# Altium footprint library pcblib_STD.PcbLib: 26 footprints (part 2 of 2)
Each footprint in its own frame and in the unit in brackets; x right, y up, seen from the top. Pads: shape width x height; smd on the part's side, far side on the other; paste and mask are expansions set on the pad; w line width, h text height; cw(c..) or ccw(c..) is an arc to the next point about the centre after c.
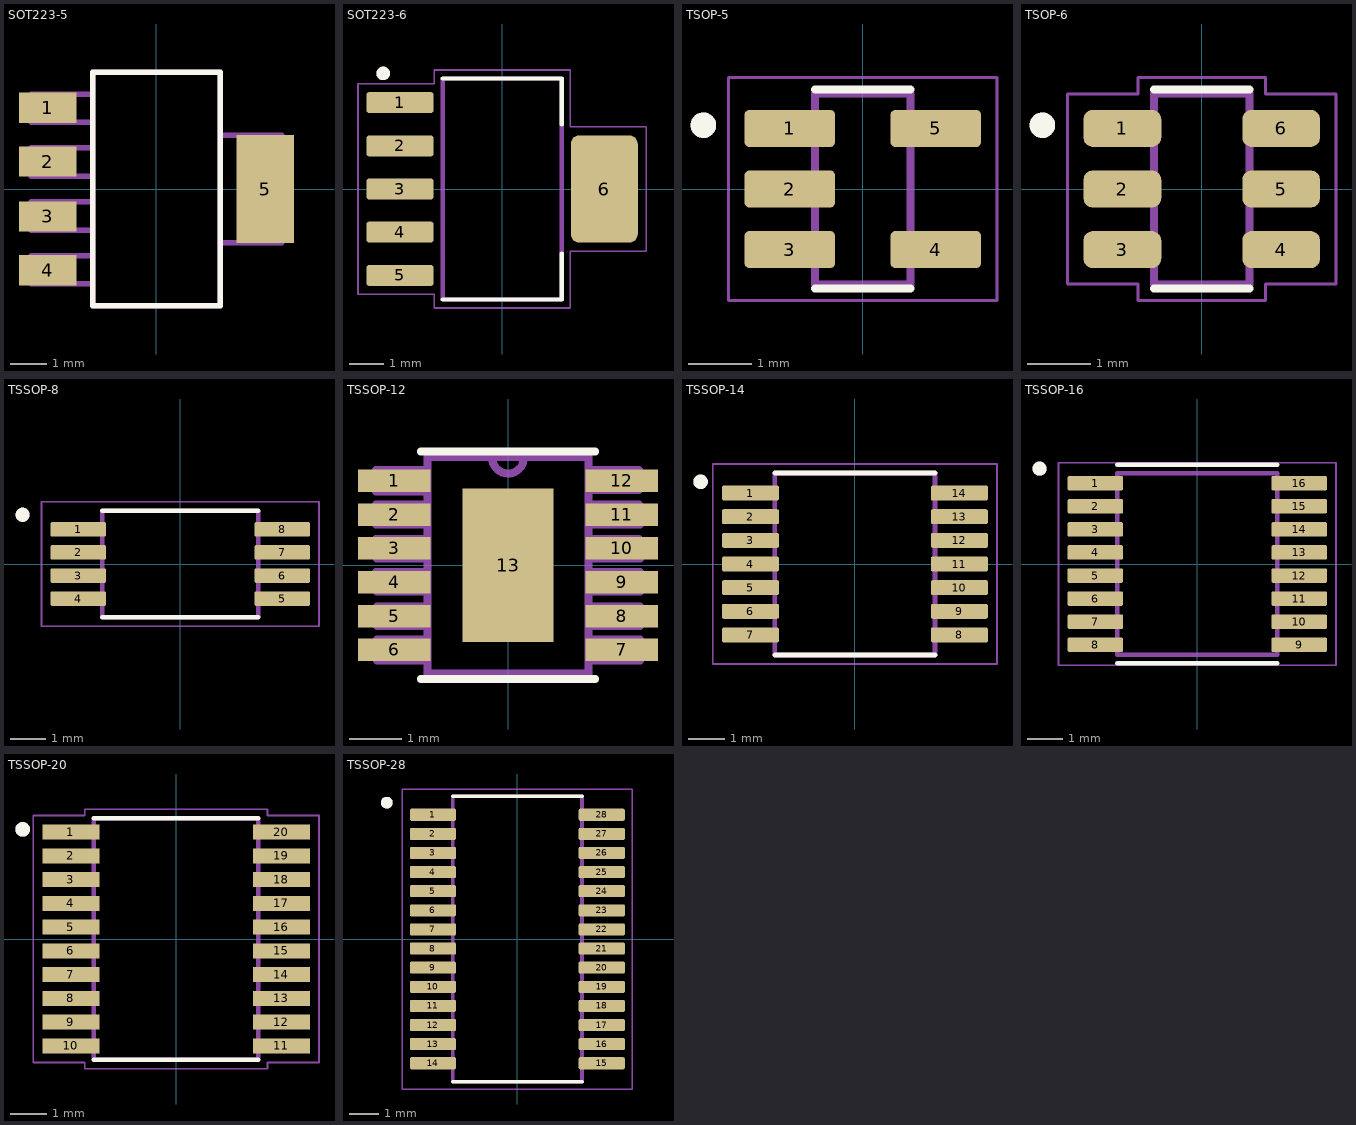
[diagram p1: the footprints below, top view; thin cyan lines are the x and y axes]

## SOT223-5 [mil]
pads (5):
  rect 63x33 smd: 1(-119,89) 2(-119,30) 3(-119,-30) 4(-119,-89)
  rect 63x118 smd: 5(119,0)
Top Overlay:
  lines w6: -70,-128 70,-128 70,128 -70,128 -70,-128
Mechanical 13:
  lines w6: -137,-104 -137,-73 -70,-73 -70,-104 -137,-104 ; -137,-45 -137,-14 -70,-14 -70,-45 -137,-45 ; -137,14 -137,45 -70,45 -70,14 -137,14 ; -137,73 -137,104 -70,104 -70,73 -137,73 ; -70,-128 70,-128 70,128 -70,128 -70,-128 ; 70,-59 70,59 137,59 137,-59 70,-59

## SOT223-6 [mm]
pads (6):
  rrect25% 1.97x0.62 smd: 1(-3.005,2.54) 2(-3.005,1.27) 3(-3.005,0) 4(-3.005,-1.27) 5(-3.005,-2.54)
  rrect25% 1.97x3.16 smd: 6(3.005,0)
Top Overlay:
  circle w0.2: c-3.5,3.4 r0.1
  lines w0.127: -1.75,-3.25 1.75,-3.25 1.75,-1.9 ; -1.75,3.25 1.75,3.25 1.75,1.9
Mechanical 13:
  circle w0.2: c-3.5,3.4 r0.1
  lines w0.127: -1.75,-3.25 1.75,-3.25 1.75,3.25 -1.75,3.25 -1.75,-3.25
Mechanical 15:
  lines w0.05: -4.24,-3.1 -4.24,3.1 -2,3.1 -2,3.5 2,3.5 2,1.83 4.24,1.83 4.24,-1.83 2,-1.83 2,-3.5 -2,-3.5 -2,-3.1 -4.24,-3.1

## TSOP-5 [mm]
height 1.1
pads (5):
  rrect25% 1.42x0.58 smd: 1(-1.145,0.95) 2(-1.145,0) 3(-1.145,-0.95) 4(1.145,-0.95) 5(1.145,0.95)
Top Overlay:
  circle w0.2: c-2.5,1 r0.1
  lines w0.127: -0.75,-1.56 0.75,-1.56 ; -0.75,1.56 0.75,1.56
Mechanical 13:
  circle w0.2: c-2.5,1 r0.1
  lines w0.127: -0.75,-1.5 0.75,-1.5 0.75,1.5 -0.75,1.5 -0.75,-1.5
Mechanical 15:
  lines w0.05: -2.105,-1.75 2.105,-1.75 2.105,1.75 -2.105,1.75 -2.105,-1.75
3D body "step_temp.STEP": height 1.1, standoff 0, extent -1.345,-1.5 1.405,1.5

## TSOP-6 [mm]
height 1.1
pads (6):
  rrect50% 1.22x0.58 smd: 1(-1.245,0.95) 2(-1.245,0) 3(-1.245,-0.95) 4(1.245,-0.95) 5(1.245,0) 6(1.245,0.95)
Top Overlay:
  circle w0.2: c-2.5,1 r0.1
  lines w0.127: -0.75,-1.56 0.75,-1.56 ; -0.75,1.56 0.75,1.56
Mechanical 13:
  circle w0.2: c-2.5,1 r0.1
  lines w0.127: -0.75,-1.5 0.75,-1.5 0.75,1.5 -0.75,1.5 -0.75,-1.5
Mechanical 15:
  lines w0.05: -2.105,-1.49 -2.105,1.49 -1,1.49 -1,1.75 1,1.75 1,1.49 2.105,1.49 2.105,-1.49 1,-1.49 1,-1.75 -1,-1.75 -1,-1.49 -2.105,-1.49
3D body "step_temp.STEP": height 1.1, standoff 0, extent -1.375,-1.5 1.375,1.5

## TSSOP-8 [mm]
pads (8):
  rrect25% 1.57x0.41 smd: 1(-2.87,0.975) 2(-2.87,0.325) 3(-2.87,-0.325) 4(-2.87,-0.975) 5(2.87,-0.975) 6(2.87,-0.325) 7(2.87,0.325) 8(2.87,0.975)
Top Overlay:
  circle w0.2: c-4.44,1.385 r0.1
  lines w0.127: -2.2,-1.5 2.2,-1.5 ; -2.2,1.5 2.2,1.5
Mechanical 13:
  circle w0.2: c-4.44,1.385 r0.1
  lines w0.127: -2.2,-1.5 2.2,-1.5 2.2,1.5 -2.2,1.5 -2.2,-1.5
Mechanical 15:
  lines w0.05: -3.905,-1.75 3.905,-1.75 3.905,1.75 -3.905,1.75 -3.905,-1.75
3D body "step_temp.STEP": height 1.2, standoff 0, extent -3.2,-1.5 3.2,1.5

## TSSOP-12 [mil]
pads (13):
  rect 55x17 smd: 1(-86,64) 2(-86,38.4) 3(-86,12.8) 4(-86,-12.8) 5(-86,-38.4) 6(-86,-64) 7(86,-64) 8(86,-38.4) 9(86,-12.8) 10(86,12.8) 11(86,38.4) 12(86,64)
  rect 69x116 smd paste-78.74: 13(0,0)
Top Overlay:
  lines w6: -66,-86 66,-86 ; -66,86 66,86
Top Paste:
  region: 30.56,-54.06 -30.56,-54.06 -30.56,-3.94 30.56,-3.94
  region: 30.56,3.94 -30.56,3.94 -30.56,54.06 30.56,54.06
Mechanical 13:
  lines w6: -12,81.08 ccw(c0,81.5) 12,81.92 ; -100,-5 -99,-20 -61,-20 -61,-5 -100,-5 ; -100,20 -99,5 -61,5 -61,20 -100,20 ; -100,31 -61,31 -61,46 -100,46 -100,31 ; -100,56 -61,56 -61,72 -100,72 -100,56 ; -99,-72 -61,-72 -61,-56 -99,-56 -99,-72 ; -99,-46 -61,-46 -61,-31 -99,-31 -99,-46 ; -61,-82 -61,82 12,82 61,82 61,-82 -61,-82 ; 61,-72 100,-72 100,-56 61,-56 61,-72 ; 61,-46 100,-46 100,-31 61,-31 61,-46 ; 61,-20 100,-20 100,-5 61,-5 61,-20 ; 61,5 100,5 99,20 61,20 61,5 ; 61,31 100,31 99,46 61,46 61,31 ; 61,57 99,57 99,72 61,72 61,57

## TSSOP-14 [mm]
pads (14):
  rrect25% 1.57x0.41 smd: 1(-2.87,1.95) 2(-2.87,1.3) 3(-2.87,0.65) 4(-2.87,0) 5(-2.87,-0.65) 6(-2.87,-1.3) 7(-2.87,-1.95) 8(2.87,-1.95) 9(2.87,-1.3) 10(2.87,-0.65) 11(2.87,0) 12(2.87,0.65) 13(2.87,1.3) 14(2.87,1.95)
Top Overlay:
  circle w0.2: c-4.24,2.26 r0.1
  lines w0.127: -2.2,-2.5 2.2,-2.5 ; -2.2,2.5 2.2,2.5
Mechanical 13:
  circle w0.2: c-4.24,2.26 r0.1
  lines w0.127: -2.2,-2.5 -2.2,2.5 2.2,2.5 2.2,-2.5 -2.2,-2.5
Mechanical 15:
  lines w0.05: -3.905,-2.75 -3.905,2.75 3.905,2.75 3.905,-2.75 -3.905,-2.75
3D body "step_temp.STEP": height 1.2, standoff 0, extent -3.2,-2.5 3.2,2.5

## TSSOP-16 [mm]
pads (16):
  rrect25% 1.57x0.41 smd: 1(-2.87,2.275) 2(-2.87,1.625) 3(-2.87,0.975) 4(-2.87,0.325) 5(-2.87,-0.325) 6(-2.87,-0.975) 7(-2.87,-1.625) 8(-2.87,-2.275) 9(2.87,-2.275) 10(2.87,-1.625) 11(2.87,-0.975) 12(2.87,-0.325) 13(2.87,0.325) 14(2.87,0.975) 15(2.87,1.625) 16(2.87,2.275)
Top Overlay:
  circle w0.2: c-4.44,2.685 r0.1
  lines w0.127: -2.25,-2.8 2.25,-2.8 ; -2.25,2.8 2.25,2.8
Mechanical 13:
  circle w0.2: c-4.44,2.685 r0.1
  lines w0.127: -2.25,-2.55 -2.25,2.55 2.25,2.55 2.25,-2.55 -2.25,-2.55
Mechanical 15:
  lines w0.05: -3.905,-2.85 -3.905,2.85 3.905,2.85 3.905,-2.85 -3.905,-2.85

## TSSOP-20 [mm]
pads (20):
  rect 1.56x0.41 smd: 1(-2.88,2.925) 2(-2.88,2.275) 3(-2.88,1.625) 4(-2.88,0.975) 5(-2.88,0.325) 6(-2.88,-0.325) 7(-2.88,-0.975) 8(-2.88,-1.625) 9(-2.88,-2.275) 10(-2.88,-2.925) 11(2.88,-2.925) 12(2.88,-2.275) 13(2.88,-1.625) 14(2.88,-0.975) 15(2.88,-0.325) 16(2.88,0.325) 17(2.88,0.975) 18(2.88,1.625) 19(2.88,2.275) 20(2.88,2.925)
Top Overlay:
  circle w0.2: c-4.2,3 r0.1
  lines w0.127: -2.25,-3.3 2.25,-3.3 ; -2.25,3.3 2.25,3.3
Mechanical 13:
  circle w0.2: c-4.2,3 r0.1
  lines w0.127: -2.25,-3.3 2.25,-3.3 2.25,3.3 -2.25,3.3 -2.25,-3.3
Mechanical 15:
  lines w0.05: -3.91,-3.38 -2.5,-3.38 -2.5,-3.55 2.5,-3.55 2.5,-3.38 3.91,-3.38 3.91,3.38 2.5,3.38 2.5,3.55 -2.5,3.55 -2.5,3.38 -3.91,3.38 -3.91,-3.38
3D body "step_temp.STEP": height 0.53, standoff -0.67, extent -3.2,-3.25 3.2,3.25

## TSSOP-28 [mm]
pads (28):
  rrect25% 1.57x0.41 smd: 1(-2.87,4.225) 2(-2.87,3.575) 3(-2.87,2.925) 4(-2.87,2.275) 5(-2.87,1.625) 6(-2.87,0.975) 7(-2.87,0.325) 8(-2.87,-0.325) 9(-2.87,-0.975) 10(-2.87,-1.625) 11(-2.87,-2.275) 12(-2.87,-2.925) 13(-2.87,-3.575) 14(-2.87,-4.225) 15(2.87,-4.225) 16(2.87,-3.575) 17(2.87,-2.925) 18(2.87,-2.275) 19(2.87,-1.625) 20(2.87,-0.975) 21(2.87,-0.325) 22(2.87,0.325) 23(2.87,0.975) 24(2.87,1.625) 25(2.87,2.275) 26(2.87,2.925) 27(2.87,3.575) 28(2.87,4.225)
Top Overlay:
  circle w0.2: c-4.44,4.635 r0.1
  lines w0.127: -2.2,-4.85 2.2,-4.85 ; -2.2,4.85 2.2,4.85
Mechanical 13:
  circle w0.2: c-4.44,4.635 r0.1
  lines w0.127: -2.2,-4.85 2.2,-4.85 2.2,4.85 -2.2,4.85 -2.2,-4.85
Mechanical 15:
  lines w0.05: -3.905,-5.1 3.905,-5.1 3.905,5.1 -3.905,5.1 -3.905,-5.1